# EAGLE library part WL-S7DS_0.2INCH_COMMON-ANODE (library Wurth_7 Segments Display_WL-S7DS)
WL-S7DS 7 Segments Display SMT Single Digit Characteristics Industrial standard size and schematic Low power consumption Grey surface Milky / Diffuesed segments Driving with DC current in forward direction only Suitable for high peak current upto 100 mA Applications Audio / measure equipment Instrument panels Digital read out display Control units <https://www.we-online.com/components/media/o335301v209%20WL-S7DS_Group.jpg> Details see: www.we-online.com/en/components/products/WL_S7DS <www.we-online.com/catalog/WL_S7DS/?utm_source=eagle_model&utm_medium=description_link&utm_campaign=eisos_eagle> Updated by Ella Wu, 2023-01-17 2024 (C) Wurth Elektronik
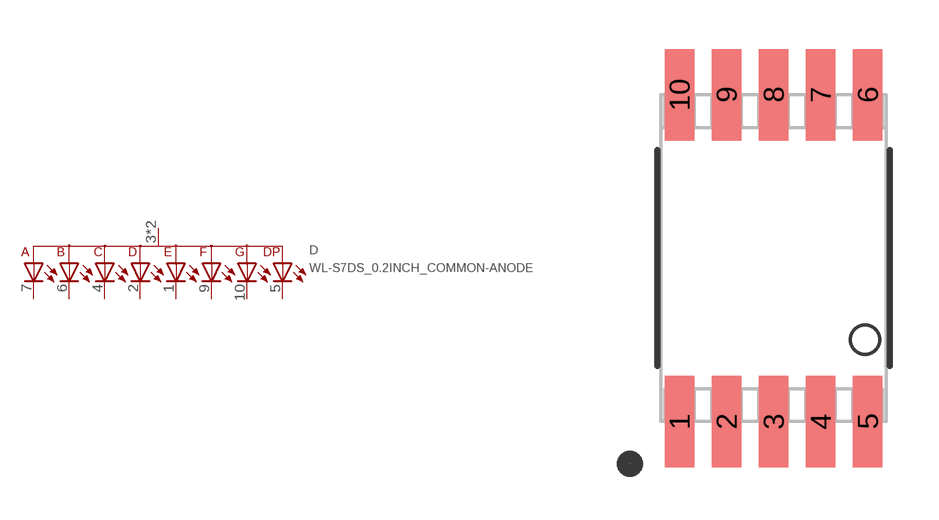
[diagram p5: symbol with the pads of WL-S7DS_0.2INCH; footprint WL-S7DS_0.2INCH]

Designator prefix D

## WL-S7DS_0.2INCH_COMMON-ANODE_157102B12800 (CIRCUITRY: Common Anode; DATASHEET-URL: https://www.we-online.com/redexpert/spec/157102B12800?ae; EMITTING-COLOR: Blue; FORWARD-VOLTAGE-TYP: 3V; HEIGHT: 3mm; LENGTH: 10mm; LUMINOUS-INTENSITY-TYP: 24mcd; PART-NUMBER: 157102B12800; VALUE: 157102B12800; WIDTH: 6.9mm), WL-S7DS_0.2INCH_COMMON-ANODE_157102S12800 (CIRCUITRY: Common Anode; DATASHEET-URL: https://www.we-online.com/redexpert/spec/157102S12800?ae; EMITTING-COLOR: Super Red; FORWARD-VOLTAGE-TYP: 2V; HEIGHT: 3mm; LENGTH: 10mm; LUMINOUS-INTENSITY-TYP: 16mcd; PART-NUMBER: 157102S12800; VALUE: 157102S12800; WIDTH: 6.9mm), WL-S7DS_0.2INCH_COMMON-ANODE_157102V12800 (CIRCUITRY: Common Anode; DATASHEET-URL: https://www.we-online.com/redexpert/spec/157102V12800?ae; EMITTING-COLOR: Bright Green; FORWARD-VOLTAGE-TYP: 2V; HEIGHT: 3mm; LENGTH: 10mm; LUMINOUS-INTENSITY-TYP: 17mcd; PART-NUMBER: 157102V12800; VALUE: 157102V12800; WIDTH: 6.9mm)  [WL-S7DS_0.2INCH]
1  1  pas
2  2  pas
3  +  pas
4  4  pas
5  5  pas
6  6  pas
7  7  pas
8  +  pas
9  9  pas
10  10  pas

## Footprint WL-S7DS_0.2INCH (pad centres in mm)
WL-S7DS 7 Segments Display SMT Single Digit Size: 0.2inch, SMT, 10pins L X W X H=10mm X 6.9mm X 3mm
smd 0.9 x 2.8: 1 -2.88,-5; 2 -1.44,-5; 3 0,-5; 4 1.44,-5; 5 2.88,-5; 6 2.88,5; 7 1.44,5; 8 0,5; 9 -1.44,5; 10 -2.88,5